# EAGLE library part BME680 (library df4iah_sensors)
BME680 Climate Sensor Dimensions: 3.0 x 3.0 mm Pitch: 0.8 mm
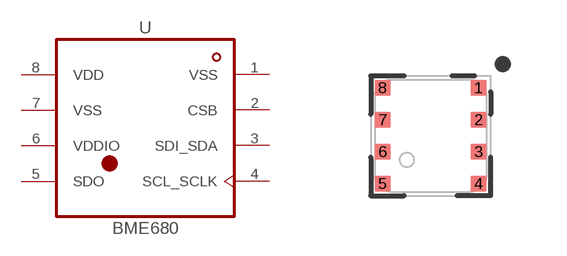
[diagram p3: symbol with the pads of BME680; footprint BME680]

Designator prefix U

## BME680  [BME680]
1  VSS  pas
2  CSB  in
3  SDI_SDA
4  SCL_SCLK  in
5  SDO
6  VDDIO  pwr
7  VSS  in
8  VDD  pwr

## Footprint BME680 (pad centres in mm)
BME680 Climate Sensor Dimensions: 3.0 x 3.0 mm Pitch: 0.8 mm
smd 0.4 x 0.4: 1 1.2,1.2; 2 1.2,0.4; 3 1.2,-0.4; 4 1.2,-1.2; 5 -1.2,-1.2; 6 -1.2,-0.4; 7 -1.2,0.4; 8 -1.2,1.2